# Altium footprint library PcbLib1.PcbLib: 21 footprints (part 2 of 2)
Each footprint in its own frame and in the unit in brackets; x right, y up, seen from the top. Pads: shape width x height; smd on the part's side, far side on the other; paste and mask are expansions set on the pad; w line width, h text height; cw(c..) or ccw(c..) is an arc to the next point about the centre after c.
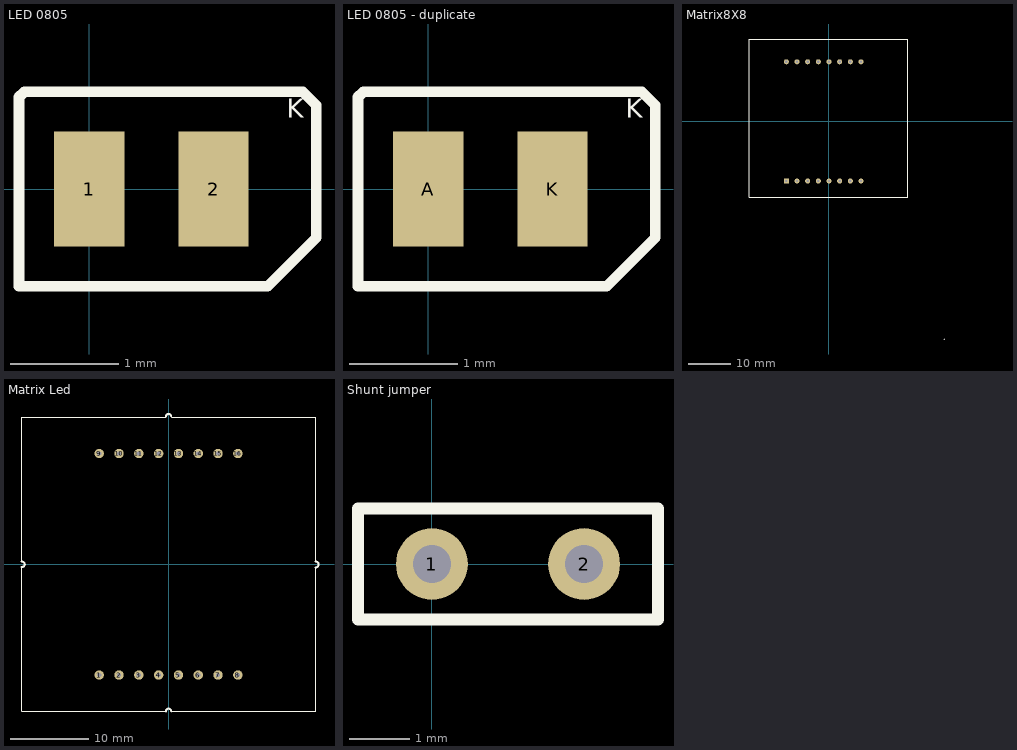
[diagram p1: the footprints below, top view; thin cyan lines are the x and y axes]

## LED 0805 [mm]
pads (2):
  rect 0.65x1.06 smd: 1(0,0) 2(1.15,0)
Top Overlay:
  lines w0.1: -0.65,-0.9 1.65,-0.9 2.1,-0.45 2.1,0.775 1.975,0.9 -0.6,0.9 -0.65,0.85 -0.65,-0.9
  text "K" at 1.825,0.6 h0.3

## LED 0805 - duplicate [mm]
pads (2):
  rect 0.65x1.06 smd: A(0,0) K(1.15,0)
Top Overlay:
  lines w0.1: -0.65,-0.9 1.65,-0.9 2.1,-0.45 2.1,0.775 1.975,0.9 -0.6,0.9 -0.65,0.85 -0.65,-0.9
  text "K" at 1.825,0.6 h0.3

## Matrix8X8 [mm]
pads (16):
  rect 1.2x1.2 hole 0.55: 1(-10.16,-14.2)
  round 1.2 hole 0.55: 2(-7.62,-14.2) 3(-5.08,-14.2) 4(-2.54,-14.2) 5(0,-14.2) 6(2.54,-14.2) 7(5.08,-14.2) 8(7.62,-14.2) 9(-10.16,14.2) 10(-7.62,14.2) 11(-5.08,14.2) 12(-2.54,14.2) 13(0,14.2) 14(2.54,14.2) 15(5.08,14.2) 16(7.62,14.2)
Top Overlay:
  pour cut-out: 2.39,5.025
  pour cut-out: 3.915,5.55
  lines w0.1: 27.49,-51.85 27.54,-51.8 ; -18.96,-18.075 -18.935,-18.05 18.74,-18.05 18.74,19.625 -18.96,19.625 -18.96,-18.075

## Matrix Led [mm]
pads (16):
  round 1.2 hole 0.55: 1(-8.89,-14.2) 2(-6.35,-14.2) 3(-3.81,-14.2) 4(-1.27,-14.2) 5(1.27,-14.2) 6(3.81,-14.2) 7(6.35,-14.2) 8(8.89,-14.2) 9(-8.89,14.2) 10(-6.35,14.2) 11(-3.81,14.2) 12(-1.27,14.2) 13(1.27,14.2) 14(3.81,14.2) 15(6.35,14.2) 16(8.89,14.2)
Top Overlay:
  lines w0.1: -18.85,-0.41 -18.85,-18.85 -0.346,-18.85 ; -18.85,0.371 -18.85,18.85 -0.371,18.85 ; 0.346,-18.85 18.85,-18.85 18.85,-0.41 ; 0.346,18.925 0.421,18.85 18.85,18.85 18.85,0.371
  lines w0.254: -18.837,-0.334 ccw(c-18.78,0.005) -18.824,0.345 ; -0.346,-18.85 cw(c0,-18.85) 0.346,-18.85 ; -0.346,18.925 cw(c0,18.925) 0.346,18.925 ; 18.85,-0.41 ccw(c18.85,-0.019) 18.85,0.371

## Shunt jumper [mm]
pads (2):
  round 1.2 hole 0.64: 1(0,0) 2(2.54,0)
Top Overlay:
  lines w0.2: -1.235,-0.925 3.775,-0.925 3.775,0 3.775,0.925 -1.235,0.925 -1.235,-0.925